# Altium footprint library Keyboard.PcbLib: 5 footprints
Each footprint in its own frame and in the unit in brackets; x right, y up, seen from the top. Pads: shape width x height; smd on the part's side, far side on the other; paste and mask are expansions set on the pad; w line width, h text height; cw(c..) or ccw(c..) is an arc to the next point about the centre after c.
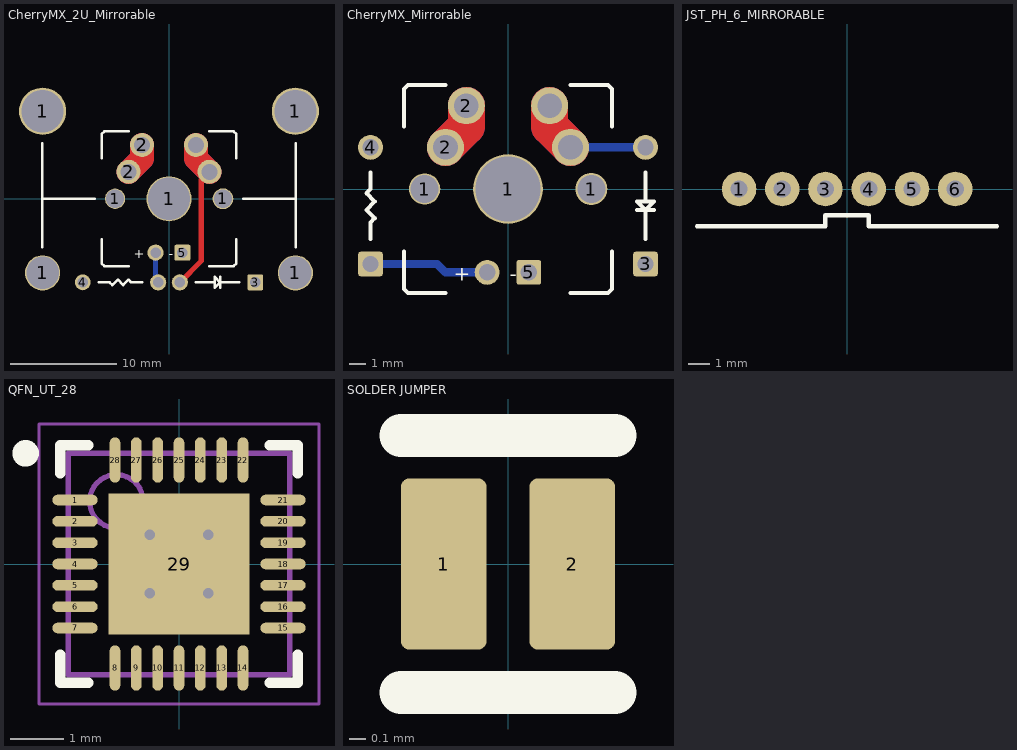
[diagram p0: the footprints below, top view; thin cyan lines are the x and y axes]

## CherryMX_2U_Mirrorable [mil]
pads (17):
  round 130 hole 120: 1(-469,-275) 1(469,-275)
  round 175 hole 157: 1(-469,325) 1(469,325)
  round 75 hole 67: 1(-200,0)
  round 167 hole 157: 1(0,0)
  round 77 hole 67: 1(200,0)
  round 89 hole 59: 2(-150,100) 2(-100,200) ""(100,200) ""(150,100)
  rrect20% 59x59 hole 39: 3(320,-310) 5(50,-200)
  round 59 hole 39: 4(-320,-310)
  round 60 hole 39: ""(-50,-200) ""(-40,-310) ""(40,-310)
Top Layer:
  lines w20: 40,-310 120,-230 120,-50 120,70
  lines w89: -150,100 -100,150 -100,200 ; 100,200 100,150 150,100
Bottom Layer:
  lines w20: -50,-200 -50,-300 -40,-310
  lines w89: -150,100 -100,150 -100,200 ; 100,200 100,150 150,100
Top Overlay:
  lines w10: -470,-180 -470,205 ; -470,0 -275,0 ; -260,-310 -220,-310 -210,-320 -190,-300 -170,-320 -150,-300 -140,-310 -100,-310 ; -250,-150 -250,-240 -240,-250 -150,-250 ; -250,150 -250,240 -240,250 -150,250 ; 100,-310 170,-310 ; 150,-250 240,-250 250,-240 250,-150 ; 150,250 240,250 250,240 250,150 ; 190,-330 190,-290 ; 260,-310 190,-310 ; 275,0 470,0 ; 470,-180 470,205 ; 190,-310 170,-330 170,-290 190,-310
  text "+      -" at -130,-220 h35
Bottom Overlay:
  lines w10: -470,-180 -470,205 ; -470,0 -275,0 ; -260,-310 -220,-310 -210,-320 -190,-300 -170,-320 -150,-300 -140,-310 -100,-310 ; -250,-150 -250,-240 -240,-250 -150,-250 ; -250,150 -250,240 -240,250 -150,250 ; 100,-310 170,-310 ; 150,-250 240,-250 250,-240 250,-150 ; 150,250 240,250 250,240 250,150 ; 190,-330 190,-290 ; 260,-310 190,-310 ; 470,-180 470,205 ; 190,-310 170,-290 170,-330 190,-310 ; 275,0 470,0 275,0
  text "+      -" at -130,-220 h35
3D body "Resistor TH horizontal 7,62.stp": height 98.82, standoff -78.74, extent -336.86,-360 -23.14,-268.84
3D body "Stabilizer - open.STEP": height 612.57, standoff -107.91, extent -604.8,-332.83 603.86,423.08
3D body "MX .STEP": height 620.08, standoff -124.02, extent -307.46,-307.46 306.71,306.71
3D body "DO-35_7mm.STEP": height 75.79, standoff -38.78, extent 30,-346.42 327.64,-273.58

## CherryMX_Mirrorable [mil]
pads (13):
  round 75 hole 67: 1(-200,0)
  round 167 hole 157: 1(0,0)
  round 77 hole 67: 1(200,0)
  round 89 hole 59: 2(-150,100) 2(-100,200) ""(100,200) ""(150,100)
  rrect20% 59x59 hole 39: 3(330,-180) 5(50,-200) ""(-330,-180)
  round 60 hole 39: 4(-330,100) ""(-50,-200) ""(330,100)
Top Layer:
  lines w89: -150,100 -100,150 -100,200 ; 100,200 100,150 150,100
Bottom Layer:
  lines w20: -330,-180 -170,-180 -150,-200 -50,-200 ; 150,100 330,100
  lines w89: -150,100 -100,150 -100,200 ; 100,200 100,150 150,100
Top Overlay:
  lines w10: -330,-120 -330,-80 -320,-70 -340,-50 -320,-30 -340,-10 -330,0 -330,40 ; -250,-150 -250,-240 -240,-250 -150,-250 ; -250,150 -250,240 -240,250 -150,250 ; 150,-250 240,-250 250,-240 250,-150 ; 150,250 240,250 250,240 250,150 ; 310,-50 350,-50 ; 330,-120 330,-50 ; 330,-30 330,40 ; 330,-50 350,-30 310,-30 330,-50
  text "+      -" at -130,-220 h35
Bottom Overlay:
  lines w10: -330,-120 -330,-80 -320,-70 -340,-50 -320,-30 -340,-10 -330,0 -330,40 ; -250,-150 -250,-240 -240,-250 -150,-250 ; -250,150 -250,240 -240,250 -150,250 ; 150,-250 240,-250 250,-240 250,-150 ; 150,250 240,250 250,240 250,150 ; 310,-50 350,-50 ; 330,-120 330,-50 ; 330,-30 330,40 ; 330,-50 310,-30 350,-30 330,-50
  text "+      -" at -130,-220 h35
3D body "Resistor TH horizontal 7,62.stp": height 98.82, standoff -78.74, extent -375,-196.86 -283.84,116.86
3D body "DO-35_7mm.STEP": height 75.79, standoff -38.78, extent 293.58,-190 366.42,107.64
3D body "MX .STEP": height 620.08, standoff -124.02, extent -307.46,-307.46 306.71,306.71

## JST_PH_6_MIRRORABLE [mil]
pads (6):
  round 63 hole 31.5: 1(-196.85,0) 2(-118.11,0) 3(-39.37,0) 4(39.63,0) 5(118.63,0) 6(197.37,0)
Top Overlay:
  lines w7.87: -273.62,-67.84 -39.37,-67.84 ; 40,-67.84 273.62,-67.84
  lines w8: -39.37,-67.84 -39.37,-48.16 40,-48.16 40,-67.84
Bottom Overlay:
  lines w7.87: -273.62,67.84 -40,67.84 ; 39.37,67.84 273.62,67.84
  lines w8: -40,67.84 -40,48.16 39.37,48.16 39.37,67.84
3D body "B6B-PH-K-S.STEP": height 236.22, standoff -133.86, extent -273.62,-66.93 273.62,110.24

## QFN_UT_28 [mm]
height 0.6
pads (29):
  oval 0.85x0.2 smd: 1(-1.95,1.2) 2(-1.95,0.8) 3(-1.95,0.4) 4(-1.95,0) 5(-1.95,-0.4) 6(-1.95,-0.8) 7(-1.95,-1.2) 15(1.95,-1.2) 16(1.95,-0.8) 17(1.95,-0.4) 18(1.95,0) 19(1.95,0.4) 20(1.95,0.8) 21(1.95,1.2)
  oval 0.2x0.85 smd: 8(-1.2,-1.95) 9(-0.8,-1.95) 10(-0.4,-1.95) 11(0,-1.95) 12(0.4,-1.95) 13(0.8,-1.95) 14(1.2,-1.95) 22(1.2,1.95) 23(0.8,1.95) 24(0.4,1.95) 25(0,1.95) 26(-0.4,1.95) 27(-0.8,1.95) 28(-1.2,1.95)
  rect 2.65x2.65 smd: 29(0,0)
via 0.55,-0.55 diameter 0.5 hole 0.2
via -0.55,-0.55 diameter 0.5 hole 0.2
via 0.55,0.55 diameter 0.5 hole 0.2
via -0.55,0.55 diameter 0.5 hole 0.2
Top Overlay:
  circle w0.25: c-2.875,2.075 r0.125
  lines w0.2: -2.225,-1.7 -2.225,-2.225 -1.7,-2.225 ; -2.225,1.7 -2.225,2.225 -1.7,2.225 ; 1.7,-2.225 2.225,-2.225 2.225,-1.7 ; 1.7,2.225 2.225,2.225 2.225,1.7
Mechanical 13:
  circle w0.1: c-1.175,1.175 r0.5
  lines w0.1: -2.075,-2.075 2.075,-2.075 2.075,2.075 -2.075,2.075 -2.075,-2.075
Mechanical 15:
  lines w0.05: -2.625,-2.625 2.625,-2.625 2.625,2.625 -2.625,2.625 -2.625,-2.625
  lines w0.1: -0.5,0 0.5,0 ; 0,-0.5 0,0.5
3D body "QFN40P400X400X60_HS-29N.step": height 0.6, standoff 0, extent -2.085,-2.085 2.085,2.085

## SOLDER JUMPER [mil]
height 5
pads (2):
  rrect20% 20x40 smd: 1(-15,0) 2(15,0)
Top Overlay:
  lines w10: -25,-30 -15,-30 25,-30 ; -25,30 15,30 25,30